# EAGLE library part ADAM_TECH-DSUB_DA-15 (library Simplex-Connectors)
ADAM TECH D-SUB DA-15
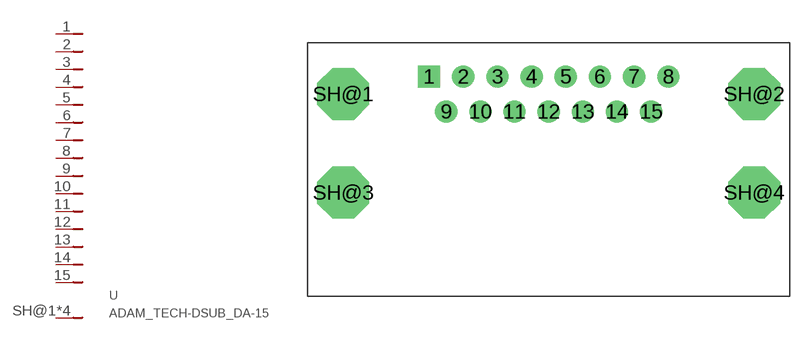
[diagram p6: symbol with the pads of ADAM_TECH_D-SUB_15; footprint ADAM_TECH_D-SUB_15]

Designator prefix -

## ADAM_TECH-DSUB_DA-15  [ADAM_TECH_D-SUB_15]
1  1
2  2
3  3
4  4
5  5
6  6
7  7
8  8
9  9
10  10
11  11
12  12
13  13
14  14
15  15
SH@1  SHIELD
SH@2  SHIELD
SH@3  SHIELD
SH@4  SHIELD

## Footprint ADAM_TECH_D-SUB_15 (pad centres in mm)
ADAM TECH DA-15 THT 90deg
drill 1.2 square: 1 0,0
drill 1.2: 2 2.77,0; 3 5.54,0; 4 8.31,0; 5 11.08,0; 6 13.85,0; 7 16.62,0; 8 19.39,0; 9 1.385,-2.84; 10 4.155,-2.84; 11 6.925,-2.84; 12 9.695,-2.84; 13 12.465,-2.84; 14 15.235,-2.84; 15 18.005,-2.84
drill 3.2 octagon: SH@1 -6.965,-1.42; SH@2 26.355,-1.42; SH@3 -6.965,-9.42; SH@4 26.355,-9.42